# Altium integrated library USB3076-XX-X_REVC.IntLib: 1 symbol
Pins are listed as number, name and electrical type; pins without a type are passive.

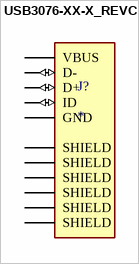
[diagram p0: symbol USB3076-XX-X_REVC]

## USB3076-XX-X_REVC
designator J?
Micro USB Receptacle, Type B, SMT, Horizontal, Bottom Mount w/out Peg, w/out Shell Stakes, w/out Mating Face Lead-In; MP: USB3076-XX-X_REVC; Package: None; Availability: Unavailable; Value: *; Price: None
footprint GCT_USB3076-XX-X_REVC
pins: 1 VBUS (power), 2 D- (io), 3 D+ (io), 4 ID (io), 5 GND (power), 6 SHIELD (power), 7 SHIELD (power), 8 SHIELD (power), 9 SHIELD (power), 10 SHIELD (power), 11 SHIELD (power)